# Altium schematic symbol library DI_LED_BLUE.SchLib: 1 symbol
Pins are listed as number, name and electrical type; pins without a type are passive.

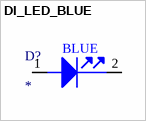
[diagram p0: symbol DI_LED_BLUE]

## DI_LED_BLUE
designator D?
pins: 1 A, 2 C
text: BLUE